# Altium footprint library FootPrintLib_2.PcbLib: 173 footprints (part 6 of 11)
Each footprint in its own frame and in the unit in brackets; x right, y up, seen from the top. Pads: shape width x height; smd on the part's side, far side on the other; paste and mask are expansions set on the pad; w line width, h text height; cw(c..) or ccw(c..) is an arc to the next point about the centre after c.
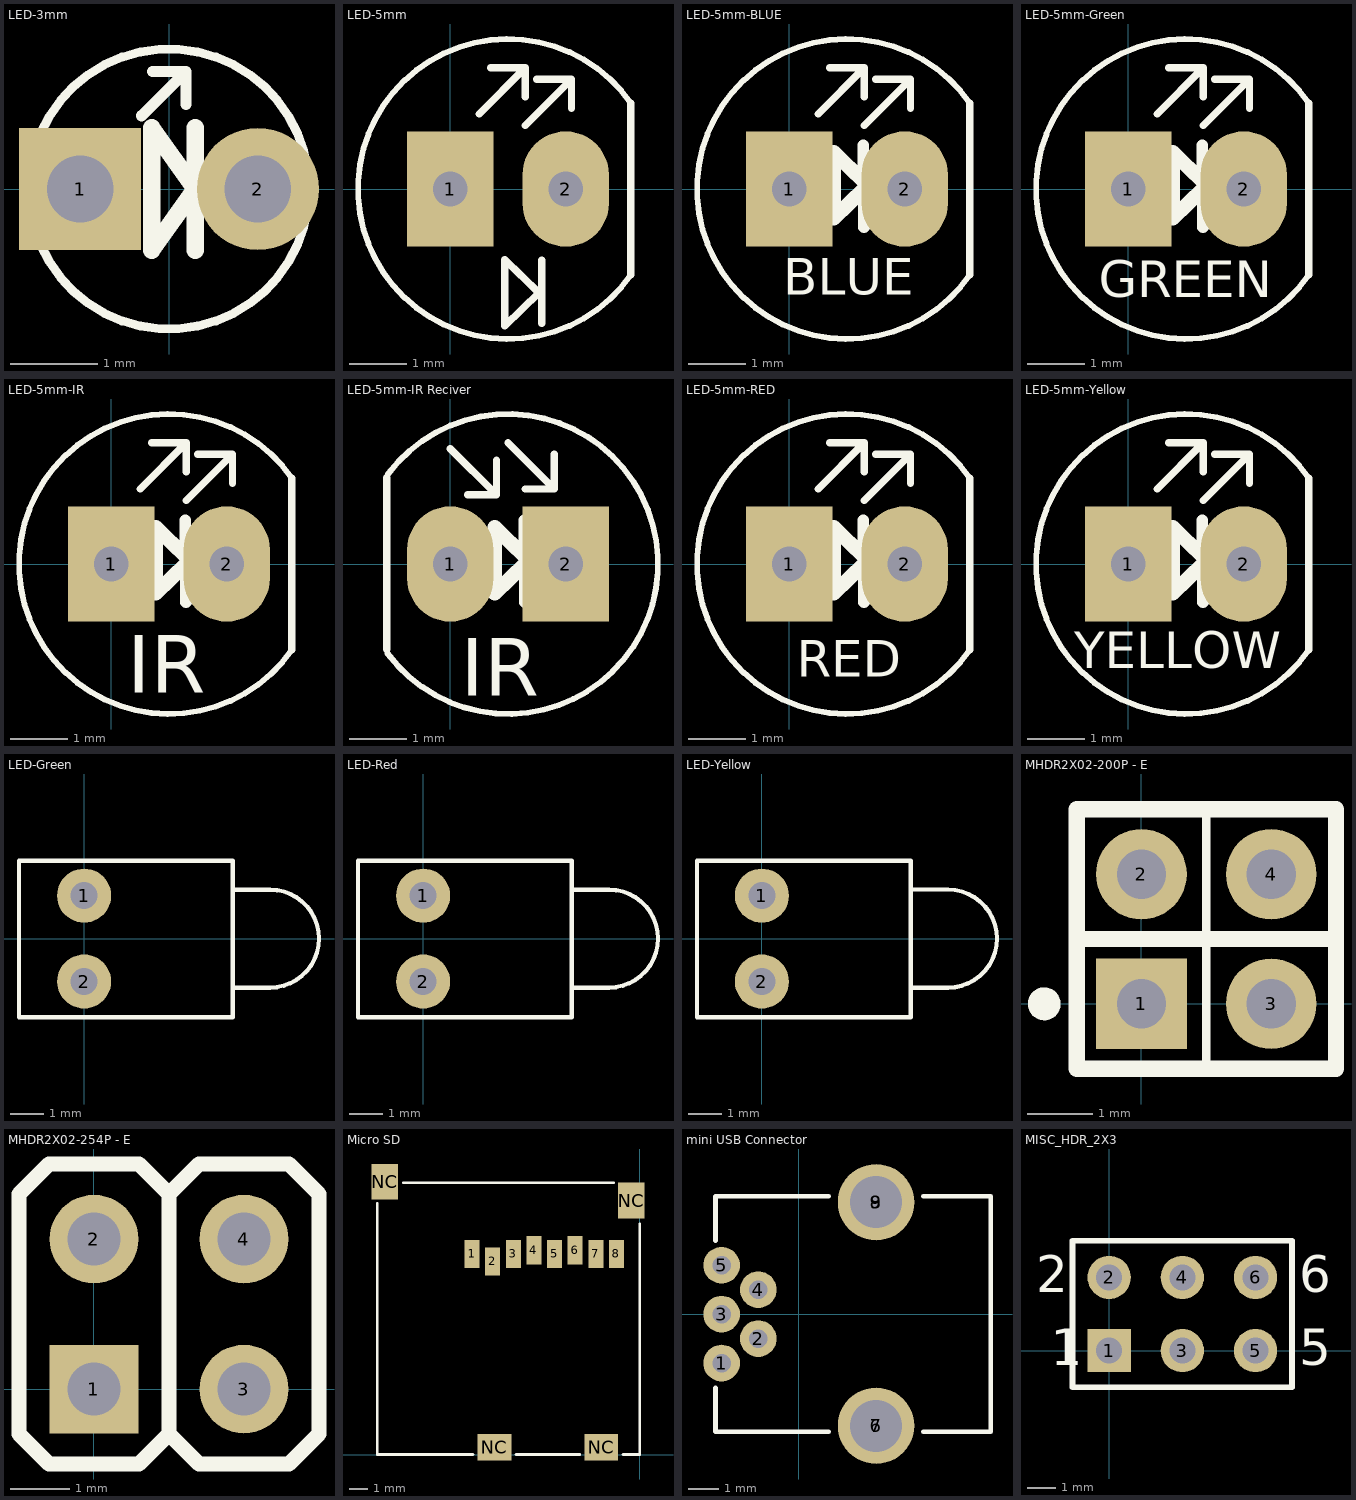
[diagram p5: the footprints below, top view; thin cyan lines are the x and y axes]

## LED-3mm [mil]
height 157.48
pads (2):
  rect 55x55 hole 30: 1(-40,0)
  round 55 hole 30: 2(40,0)
Top Overlay:
  circle w3.94: c0,0 r62.99
  lines w5: -12.4,32.95 7.6,52.95 ; -7.4,52.95 7.6,52.95 ; 7.6,37.95 7.6,52.95
  lines w7.87: 11.81,-27.56 11.81,27.56 ; -7.87,-27.56 11.81,0 -7.87,27.56 -7.87,-27.56
3D body "User Library-LED GREEN 3mm.step": height 208.55, standoff -196.85, extent -72,-74 65.33,74.76

## LED-5mm [mm]
pads (2):
  rect 1.5x2 hole 0.6: 1(0,0)
  oval 1.5x2 hole 0.6: 2(2,0)
Top Overlay:
  lines w0.1: 3.13,-1.491 cw(c1,0) 3.13,1.491
  lines w0.127: 0.5,1.3 1.3,2.1 ; 0.7,2.1 1.3,2.1 ; 1.3,1.1 2.1,1.9 ; 1.3,1.6 1.3,2.1 ; 1.5,1.9 2.1,1.9 ; 1.534,-1.796 0.946,-1.227 0.946,-2.37 1.536,-1.798 ; 1.585,-2.332 1.585,-1.229 ; 2.1,1.4 2.1,1.9 ; 3.13,-1.491 3.13,1.491

## LED-5mm-BLUE [mm]
pads (2):
  rect 1.5x2 hole 0.6: 1(0,0)
  oval 1.5x2 hole 0.6: 2(2,0)
Top Overlay:
  lines w0.1: 3.13,-1.491 cw(c1,0) 3.13,1.491
  lines w0.127: 0.5,1.3 1.3,2.1 ; 0.7,2.1 1.3,2.1 ; 1.3,1.1 2.1,1.9 ; 1.3,1.6 1.3,2.1 ; 1.5,1.9 2.1,1.9 ; 2.1,1.4 2.1,1.9 ; 3.13,-1.491 3.13,1.491
  lines w0.2: 1.278,0.762 1.295,-0.661
  lines w0.254: 1.295,0 0.77,-0.508 0.77,0.635 1.295,0.127
  text "BLUE" at -0.102,-1.829 h0.64

## LED-5mm-Green [mm]
pads (2):
  rect 1.5x2 hole 0.6: 1(0,0)
  oval 1.5x2 hole 0.6: 2(2,0)
Top Overlay:
  lines w0.1: 3.13,-1.491 cw(c1,0) 3.13,1.491
  lines w0.127: 0.5,1.3 1.3,2.1 ; 0.7,2.1 1.3,2.1 ; 1.3,1.1 2.1,1.9 ; 1.3,1.6 1.3,2.1 ; 1.5,1.9 2.1,1.9 ; 2.1,1.4 2.1,1.9 ; 3.13,-1.491 3.13,1.491
  lines w0.2: 1.278,0.762 1.295,-0.661
  lines w0.254: 1.295,0 0.77,-0.508 0.77,0.635 1.295,0.127
  text "GREEN" at -0.508,-1.88 h0.64

## LED-5mm-IR [mm]
pads (2):
  rect 1.5x2 hole 0.6: 1(0,0)
  oval 1.5x2 hole 0.6: 2(2,0)
Top Overlay:
  lines w0.1: 3.13,-1.491 cw(c1,0) 3.13,1.491
  lines w0.127: 0.5,1.3 1.3,2.1 ; 0.7,2.1 1.3,2.1 ; 1.3,1.1 2.1,1.9 ; 1.3,1.6 1.3,2.1 ; 1.5,1.9 2.1,1.9 ; 2.1,1.4 2.1,1.9 ; 3.13,-1.491 3.13,1.491
  lines w0.2: 1.278,0.762 1.295,-0.661
  lines w0.254: 1.295,0 0.77,-0.508 0.77,0.635 1.295,0.127
  text "IR" at 0.279,-2.235 h1

## LED-5mm-IR Reciver [mm]
pads (2):
  oval 1.5x2 hole 0.6: 1(0,0)
  rect 1.5x2 hole 0.6: 2(2,0)
Top Overlay:
  lines w0.1: -1.089,-1.548 ccw(c1,0) -1.08,1.56
  lines w0.127: -1.1,-1.483 -1.1,1.5 ; 0,2 0.8,1.2 ; 0.3,1.2 0.8,1.2 ; 0.8,1.8 0.8,1.2 ; 1,2.1 1.8,1.3 ; 1.3,1.3 1.8,1.3 ; 1.8,1.9 1.8,1.3
  lines w0.2: 1.278,0.762 1.295,-0.661
  lines w0.254: 1.295,0 0.77,-0.508 0.77,0.635 1.295,0.127
  text "IR" at 0.178,-2.286 h1

## LED-5mm-RED [mm]
pads (2):
  rect 1.5x2 hole 0.6: 1(0,0)
  oval 1.5x2 hole 0.6: 2(2,0)
Top Overlay:
  lines w0.1: 3.13,-1.491 cw(c1,0) 3.13,1.491
  lines w0.127: 0.5,1.3 1.3,2.1 ; 0.7,2.1 1.3,2.1 ; 1.3,1.1 2.1,1.9 ; 1.3,1.6 1.3,2.1 ; 1.5,1.9 2.1,1.9 ; 2.1,1.4 2.1,1.9 ; 3.13,-1.491 3.13,1.491
  lines w0.2: 1.278,0.762 1.295,-0.661
  lines w0.254: 1.295,0 0.77,-0.508 0.77,0.635 1.295,0.127
  text "RED" at 0.127,-1.956 h0.64

## LED-5mm-Yellow [mm]
pads (2):
  rect 1.5x2 hole 0.6: 1(0,0)
  oval 1.5x2 hole 0.6: 2(2,0)
Top Overlay:
  lines w0.1: 3.13,-1.491 cw(c1,0) 3.13,1.491
  lines w0.127: 0.5,1.3 1.3,2.1 ; 0.7,2.1 1.3,2.1 ; 1.3,1.1 2.1,1.9 ; 1.3,1.6 1.3,2.1 ; 1.5,1.9 2.1,1.9 ; 2.1,1.4 2.1,1.9 ; 3.13,-1.491 3.13,1.491
  lines w0.2: 1.278,0.762 1.295,-0.661
  lines w0.254: 1.295,0 0.77,-0.508 0.77,0.635 1.295,0.127
  text "YELLOW" at -0.94,-1.803 h0.64

## LED-Green [mm] "LED 3mm Right Angle - Color Green"
pads (2):
  round 1.6 hole 0.8: 1(0,1.27) 2(0,-1.27)
Top Overlay:
  lines w0.127: 4.4,-1.45 5.5,-1.45 ccw(c5.5,0) 5.5,1.45 4.4,1.45 ; -1.927,-2.323 4.4,-2.323 4.4,2.3 -1.927,2.3 -1.927,-2.323
3D body "LEDd3YC-Green.STEP": height 7.31, standoff -2.49, extent -1.927,-2.323 6.832,2.3

## LED-Red [mm] "LED 3mm Right Angle - Color Red"
pads (2):
  round 1.6 hole 0.8: 1(0,1.27) 2(0,-1.27)
Top Overlay:
  lines w0.127: 4.4,-1.45 5.5,-1.45 ccw(c5.5,0) 5.5,1.45 4.4,1.45 ; -1.927,-2.323 4.4,-2.323 4.4,2.3 -1.927,2.3 -1.927,-2.323
3D body "LEDd3YC-Red.STEP": height 7.31, standoff -2.49, extent -1.927,-2.323 6.832,2.3

## LED-Yellow [mm] "LED 3mm Right Angle - Color Yellow"
pads (2):
  round 1.6 hole 0.8: 1(0,1.27) 2(0,-1.27)
Top Overlay:
  lines w0.127: 4.4,-1.45 5.5,-1.45 ccw(c5.5,0) 5.5,1.45 4.4,1.45 ; -1.918,-2.323 4.4,-2.323 4.4,2.3 -1.918,2.3 -1.918,-2.323
3D body "LEDd3YC-Yellow.STEP": height 7.31, standoff -2.49, extent -1.927,-2.323 6.832,2.3

## MHDR2X02-200P - E [mil] "Male Header 2X02 with 2.00 mm Pitch"
pads (4):
  rect 55x55 hole 30: 1(0,0)
  round 55 hole 30: 2(0,78.74) 3(78.74,0) 4(78.74,78.74)
Top Overlay:
  circle w10: c-59.06,0 r5
  lines w5: 39.37,-39.37 39.37,118.11
  lines w10: -39.37,39.37 118.11,39.37 ; -39.37,-39.37 118.11,-39.37 118.11,118.11 -39.37,118.11 -39.37,-39.37

## MHDR2X02-254P - E [mm] "Male Header 2X02 with 2.54 mm Pitch"
pads (4):
  rect 1.5x1.5 hole 0.9: 1(0,0)
  round 1.5 hole 0.9: 2(0,2.54) 3(2.54,0) 4(2.54,2.54)
Top Overlay:
  lines w0.254: 1.27,-0.762 1.777,-1.268 3.302,-1.268 3.81,-0.76 3.81,3.304 ; 1.27,3.302 0.761,3.812 -0.762,3.812 -1.27,3.304 -1.27,-0.762 -0.763,-1.268 0.762,-1.268 1.27,-0.76 1.27,3.304 1.778,3.812 3.301,3.812 3.81,3.302
3D body "PIN.STEP": height 8.43, standoff -2.49, extent -1.27,-1.27 1.27,1.27
3D body "PIN.STEP": height 8.43, standoff -2.49, extent -1.27,1.27 1.27,3.81
3D body "PIN.STEP": height 8.43, standoff -2.49, extent 1.27,1.27 3.81,3.81
3D body "PIN.STEP": height 8.43, standoff -2.49, extent 1.27,-1.27 3.81,1.27

## Micro SD [mm] "MicroSD Socket (Molex 500873-080X) (3M 2908-05WB-MG)"
height 1.88
pads (12):
  rect 0.8x1.5 smd: 1(-8.94,10.7) 2(-7.84,10.3) 3(-6.74,10.7) 4(-5.64,10.9) 5(-4.54,10.7) 6(-3.44,10.9) 7(-2.34,10.7) 8(-1.24,10.7)
  rect 1.4x1.9 smd: NC(-13.6,14.55) NC(-0.45,13.55)
  rect 1.8x1.4 smd: NC(-7.75,0.4) NC(-2.05,0.4)
Top Overlay:
  lines w0.152: -14,13.4 -14,0 -8.9,0 ; -12.6,14.5 -1.4,14.5 ; -6.6,0 -3.2,0 ; -0.9,0 0,0 0,12.3
3D body "5008730806.stp": height 1.85, standoff -0.05, extent -14,-0.1 0,15.101

## mini USB Connector [mm]
pads (9):
  round 1.2 hole 0.6: 1(-2.525,-1.605) 2(-1.325,-0.805) 3(-2.525,-0.005) 4(-1.325,0.795) 5(-2.525,1.595)
  round 2.5 hole 1.7: 6(2.525,-3.655) 7(2.525,-3.655) 8(2.525,3.655) 9(2.525,3.655)
Top Overlay:
  lines w0.15: -2.725,-2.405 -2.725,-3.855 0.975,-3.855 ; -2.725,2.395 -2.725,3.845 0.975,3.845 ; 4.075,-3.855 6.275,-3.855 6.275,3.845 4.075,3.845
3D body "5877.STEP": height 3.95, standoff -1.8, extent -2.725,-3.855 6.275,3.845

## MISC_HDR_2X3 [mm] "Connector; Header; 3x2 Position"
height 8.5
pads (6):
  rect 1.5x1.5 hole 0.9: 1(0,0)
  round 1.5 hole 0.9: 2(0,2.54) 3(2.54,0) 4(2.54,2.54) 5(5.08,0) 6(5.08,2.54)
Top Overlay:
  lines w0.2: 1.482,-1.27 6.35,-1.27 ; 6.35,-1.27 -1.27,-1.27 -1.27,3.81 6.35,3.81 6.35,-1.27
  text "1" at -2.032,-0.508 h1.27
  text "2" at -2.54,2.032 h1.27
  text "5" at 6.604,-0.508 h1.27
  text "6" at 6.604,2.032 h1.27
3D body "Header3.STEP": height 8.38, standoff -2.54, extent -1.27,-1.27 6.35,1.27
3D body "Header3.STEP": height 8.38, standoff -2.54, extent -1.27,1.27 6.35,3.81